# Altium footprint library PCB1.2.PcbLib: 34 footprints (part 2 of 3)
Each footprint in its own frame and in the unit in brackets; x right, y up, seen from the top. Pads: shape width x height; smd on the part's side, far side on the other; paste and mask are expansions set on the pad; w line width, h text height; cw(c..) or ccw(c..) is an arc to the next point about the centre after c.
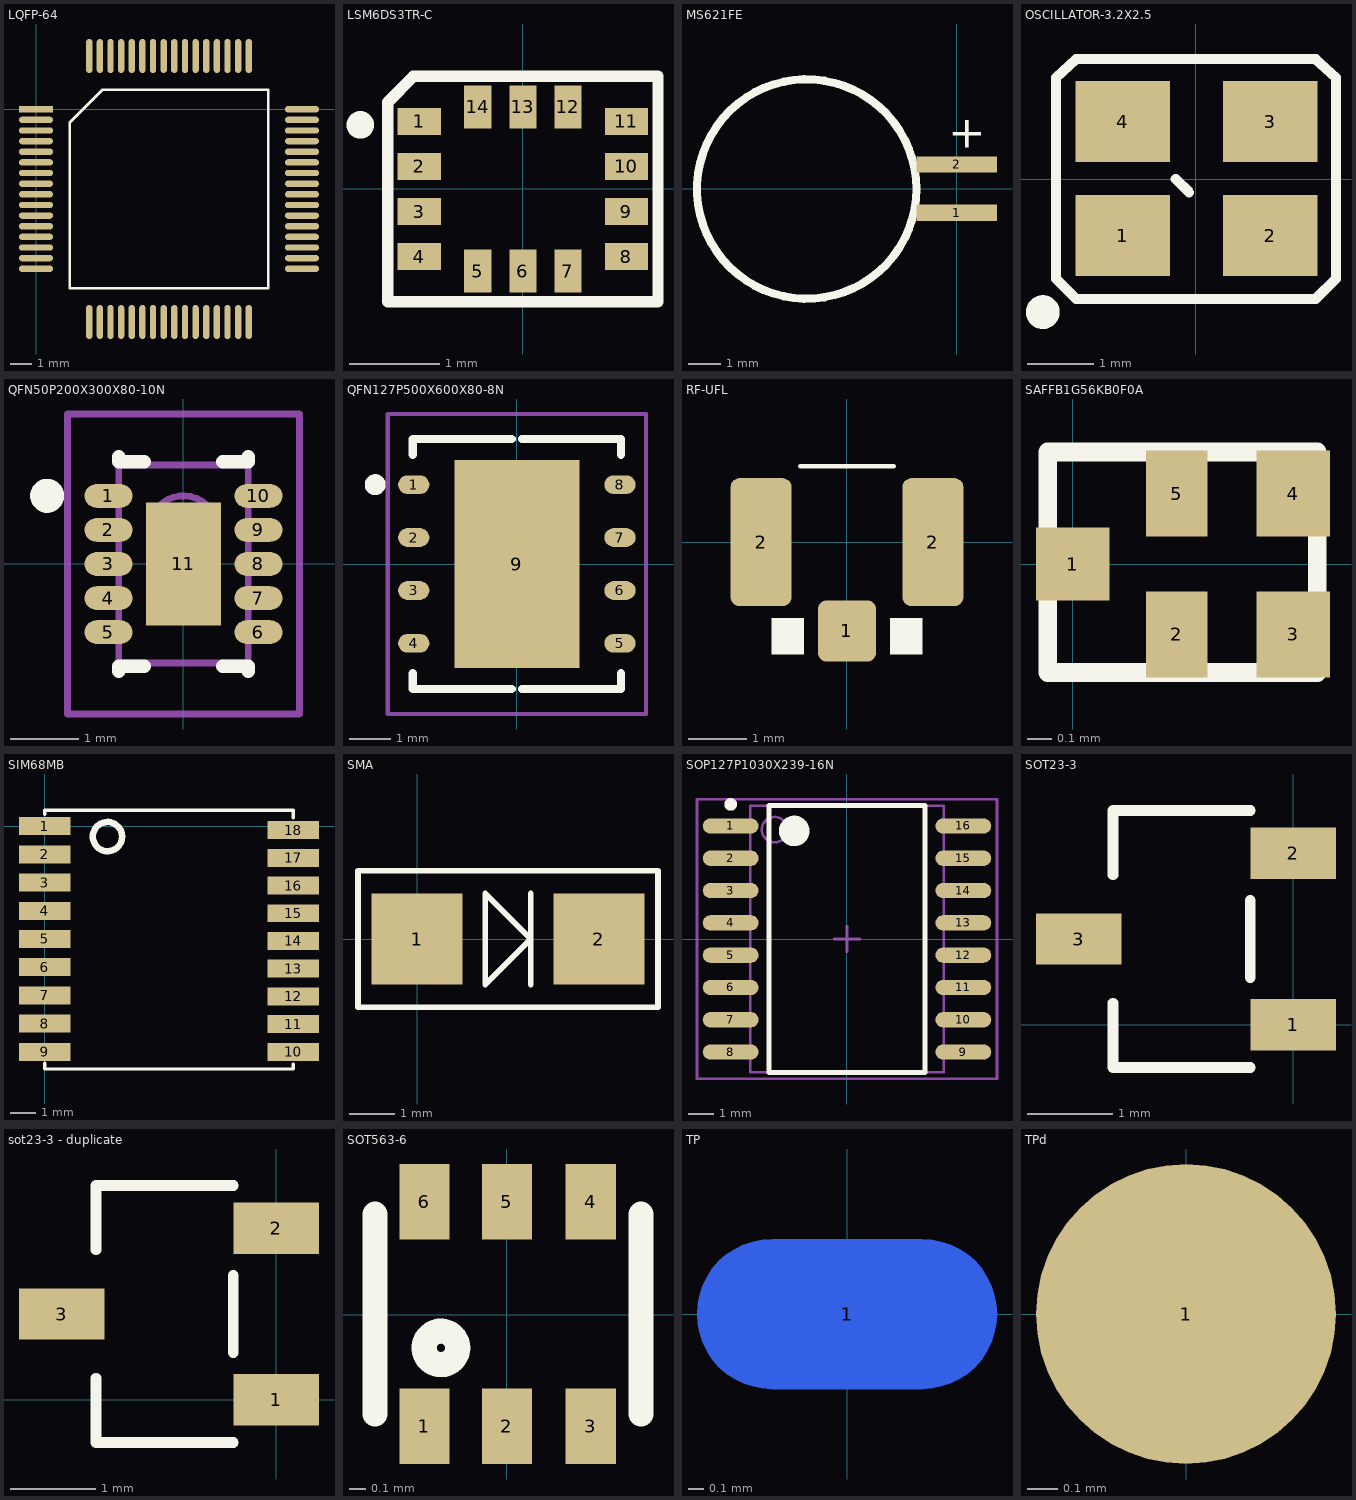
[diagram p1: the footprints below, top view; thin cyan lines are the x and y axes]

## LQFP-64 [mm]
height 1.18
pads (64):
  rect 1.6x0.3 smd: 1(0,0)
  oval 1.6x0.3 smd: 2(0,-0.5) 3(0,-1) 4(0,-1.5) 5(0,-2) 6(0,-2.5) 7(0,-3) 8(0,-3.5) 9(0,-4) 10(0,-4.5) 11(0,-5) 12(0,-5.5) 13(0,-6) 14(0,-6.5) 15(0,-7) 16(0,-7.5) 33(12.5,-7.5) 34(12.5,-7) 35(12.5,-6.5) 36(12.5,-6) 37(12.5,-5.5) 38(12.5,-5) 39(12.5,-4.5) 40(12.5,-4) 41(12.5,-3.5) 42(12.5,-3) 43(12.5,-2.5) 44(12.5,-2) 45(12.5,-1.5) 46(12.5,-1) 47(12.5,-0.5) 48(12.5,0)
  oval 0.3x1.6 smd: 17(2.5,-10) 18(3,-10) 19(3.5,-10) 20(4,-10) 21(4.5,-10) 22(5,-10) 23(5.5,-10) 24(6,-10) 25(6.5,-10) 26(7,-10) 27(7.5,-10) 28(8,-10) 29(8.5,-10) 30(9,-10) 31(9.5,-10) 32(10,-10) 49(10,2.5) 50(9.5,2.5) 51(9,2.5) 52(8.5,2.5) 53(8,2.5) 54(7.5,2.5) 55(7,2.5) 56(6.5,2.5) 57(6,2.5) 58(5.5,2.5) 59(5,2.5) 60(4.5,2.5) 61(4,2.5) 62(3.5,2.5) 63(3,2.5) 64(2.5,2.5)
Top Overlay:
  lines w0.127: 1.585,-8.415 1.585,-0.62 3.12,0.915 10.915,0.915 10.915,-8.415 1.585,-8.415

## LSM6DS3TR-C [mm]
height 1.18
pads (14):
  rect 0.48x0.3 smd: 1(-1.15,0.75) 2(-1.15,0.25) 3(-1.15,-0.25) 4(-1.15,-0.75) 8(1.15,-0.75) 9(1.15,-0.25) 10(1.15,0.25) 11(1.15,0.75)
  rect 0.3x0.48 smd: 5(-0.5,-0.91) 6(0,-0.91) 7(0.5,-0.91) 12(0.5,0.91) 13(0,0.91) 14(-0.5,0.91)
Top Overlay:
  circle w0.254: c-1.803,0.711 r0.025
  lines w0.127: -1.5,-1.25 -1.5,0.964 -1.214,1.25 1.5,1.25 1.5,-1.25 -1.5,-1.25

## MS621FE [mm]
height 1.18
pads (2):
  rect 2.5x0.5 smd: 1(0,-0.749) 2(0,0.749)
Top Overlay:
  circle w0.254: c-4.648,-0.013 r3.4
  text "+" at -0.254,1.27 h1.02

## OSCILLATOR-3.2X2.5 [mil] "OSCILLATOR-3.2X2.5"
height 46.46
pads (4):
  rect 56x48 smd: 1(-43.31,-33.46) 2(44,-33.46) 3(44,34) 4(-43.31,34)
Top Overlay:
  circle w12: c-90.55,-78.74 r4
  lines w6: -11.81,0 -3.94,-7.87 ; -82.68,-59.06 -82.68,60 -70.87,71 71,71 83,60 83,-59.06 71,-70.87 -70.87,-70.87 -82.68,-59.06
Mechanical 16:
  lines w1: -82.68,-59.06 -82.68,60 -70.87,71 71,71 83,60 83,-59.06 71,-70.87 -70.87,-70.87 -82.68,-59.06

## QFN50P200X300X80-10N [mm] "QFN, 10-Leads, Body 2.9x1.9mm (max), Pitch 0.50mm, IPC Medium Density"
height 0.8
pads (11):
  oval 0.7x0.35 smd: 1(-1.1,1) 2(-1.1,0.5) 3(-1.1,0) 4(-1.1,-0.5) 5(-1.1,-1) 6(1.1,-1) 7(1.1,-0.5) 8(1.1,0) 9(1.1,0.5) 10(1.1,1)
  rect 1.1x1.8 smd: 11(0,0)
Top Overlay:
  circle w0.25: c-2,1 r0.125
  lines w0.2: -0.95,-1.575 -0.95,-1.5 -0.575,-1.5 ; -0.95,1.575 -0.95,1.5 -0.575,1.5 ; 0.575,-1.5 0.95,-1.5 0.95,-1.575 ; 0.575,1.5 0.95,1.5 0.95,1.575
Mechanical 13:
  circle w0.1: c0,0.5 r0.5
  lines w0.1: -0.95,-1.45 -0.95,1.45 0.95,1.45 0.95,-1.45 -0.95,-1.45
Mechanical 15:
  lines w0.1: -0.5,0 0.5,0 ; 0,-0.5 0,0.5 ; -1.7,-2.2 -1.7,2.2 1.7,2.2 1.7,-2.2 -1.7,-2.2
3D body: height 0.8, standoff 0.01, extent -0.95,-1.45 0.95,1.45

## QFN127P500X600X80-8N [mm] "QFN, 8-Leads, Body 6.0x5.0mm (max), Pitch 1.27mm, IPC Medium Density"
height 0.8
pads (9):
  oval 0.75x0.45 smd: 1(-2.475,1.905) 2(-2.475,0.635) 3(-2.475,-0.635) 4(-2.475,-1.905) 5(2.475,-1.905) 6(2.475,-0.635) 7(2.475,0.635) 8(2.475,1.905)
  rect 3x5 smd: 9(0,0)
Top Overlay:
  circle w0.25: c-3.4,1.905 r0.125
  lines w0.2: -2.5,-2.625 -2.5,-3 -0.125,-3 ; -2.5,2.625 -2.5,3 -0.125,3 ; 0.125,-3 2.5,-3 2.5,-2.625 ; 0.125,3 2.5,3 2.5,2.625
Mechanical 15:
  lines w0.1: -0.5,0 0.5,0 ; 0,-0.5 0,0.5 ; -3.1,-3.6 3.1,-3.6 3.1,3.6 -3.1,3.6 -3.1,-3.6

## RF-UFL [mm]
height 1.18
pads (3):
  rrect30% 1x1.05 smd: 1(0,-1.525)
  rrect30% 1.05x2.2 smd: 2(-1.475,0) 2(1.475,0)
Top Overlay:
  rectangle: -1.3,-1.928 -0.734,-1.3
  rectangle: 0.734,-1.928 1.3,-1.3
  lines w0.076: -0.8,1.3 0.8,1.3
3D body: height 1.25, standoff 0, extent -1.7,-1.55 1.7,1.55

## SAFFB1G56KB0F0A [mm]
height 1.1
pads (5):
  rect 0.3x0.3 smd: 1(0,0)
  rect 0.25x0.35 smd: 2(0.425,-0.287) 5(0.425,0.288)
  rect 0.3x0.35 smd: 3(0.9,-0.287) 4(0.9,0.288)
Top Overlay:
  lines w0.076: -0.102,-0.443 0.998,-0.443 0.998,0.457 -0.102,0.457 -0.102,-0.443

## SIM68MB [mm]
height 1.18
pads (18):
  rect 2x0.7 smd: 1(0,0) 2(0,-1.1) 3(0,-2.2) 4(0,-3.3) 5(0,-4.4) 6(0,-5.5) 7(0,-6.6) 8(0,-7.7) 9(0,-8.8) 10(9.7,-8.8) 11(9.7,-7.719) 12(9.7,-6.638) 13(9.7,-5.557) 14(9.7,-4.476) 15(9.7,-3.395) 16(9.7,-2.314) 17(9.7,-1.233) 18(9.7,-0.152)
Top Overlay:
  circle w0.254: c2.452,-0.406 r0.571
  lines w0.127: 0,-9.246 0,-9.474 9.7,-9.474 9.7,-9.274 ; 0,0.457 0,0.626 9.7,0.626 9.7,0.333

## SMA [mm]
height 1.18
pads (2):
  rect 2x2 smd: 1(0,0) 2(4,0)
Top Overlay:
  lines w0.127: 2.5,-1 2.5,1 ; -1.3,-1.5 -1.3,1.5 5.3,1.5 5.3,-1.5 -1.3,-1.5 ; 1.5,-1 1.5,1 2.5,0 1.5,-1

## SOP127P1030X239-16N [mm] "SOP, 16-Leads, Body 10.5x7.6mm (max), Pitch 1.27mm, IPC Medium Density"
height 2.39
pads (16):
  oval 2.2x0.6 smd: 1(-4.575,4.445) 2(-4.575,3.175) 3(-4.575,1.905) 4(-4.575,0.635) 5(-4.575,-0.635) 6(-4.575,-1.905) 7(-4.575,-3.175) 8(-4.575,-4.445) 9(4.575,-4.445) 10(4.575,-3.175) 11(4.575,-1.905) 12(4.575,-0.635) 13(4.575,0.635) 14(4.575,1.905) 15(4.575,3.175) 16(4.575,4.445)
Top Overlay:
  circle w0.6: c-2.075,4.25 r0.3
  circle w0.25: c-4.575,5.295 r0.125
  lines w0.2: -3.075,-5.25 3.075,-5.25 3.075,5.25 -3.075,5.25 -3.075,-5.25
Mechanical 13:
  circle w0.1: c-2.85,4.3 r0.5
  lines w0.1: -3.8,-5.25 3.8,-5.25 3.8,5.25 -3.8,5.25 -3.8,-5.25
Mechanical 15:
  lines w0.1: -0.5,0 0.5,0 ; 0,-0.5 0,0.5 ; -5.9,-5.5 5.9,-5.5 5.9,5.5 -5.9,5.5 -5.9,-5.5
3D body: height 2.39, standoff 0.1, extent -3.8,-5.25 3.8,5.25

## SOT23-3 [mm]
height 1.18
pads (3):
  rect 1x0.6 smd: 1(0,0) 2(0,2) 3(-2.5,1)
Top Overlay:
  lines w0.127: -2.1,0.25 -2.1,-0.5 -0.5,-0.5 ; -2.1,1.75 -2.1,2.5 -0.5,2.5 ; -0.5,0.55 -0.5,1.45

## sot23-3 - duplicate [mm]
pads (3):
  rect 1x0.6 smd: 1(0,0) 2(0,2) 3(-2.5,1)
Top Overlay:
  lines w0.127: -2.1,0.25 -2.1,-0.5 -0.5,-0.5 ; -2.1,1.75 -2.1,2.5 -0.5,2.5 ; -0.5,0.55 -0.5,1.45

## SOT563-6 [mil] "SOT563-6"
pads (6):
  rect 12x18 smd: 1(-19.68,-26.57) 2(0,-26.57) 3(20,-26.57) 4(20,27) 5(0,27) 6(-19.69,27)
Top Overlay:
  circle w6: c-15.75,-7.87 r4
  lines w6: -31.5,-23.62 -31.5,24 ; 32,-23.62 32,24

## TP [mm]
pads (1):
  oval 2x1 smd far side: 1(0,0)

## TPd [mm]
height 1.4
pads (1):
  round 1 smd: 1(0,0)